# EAGLE library part 662022230822 (library Wire-to-Board (rev18a))
WR-MPC3 3.00mm Male Dual Row SMT Angled Header Through Hole Retention Clip, 22 Pins=>Code : Con_WTB_MPC3_2_PCB_SMT_662022230822 <http://katalog.we-online.de/media/thumbs2/eican/thb_Con_WTB_MPC3_2_PCB_SMT_6620xx230822_pf2.jpg> Details see: http://katalog.we-online.de/en/em/MPC3_3_00_SMT_MALE_DUAL_ROW_ANGLED_HEADER_W_THT_RETENTION_CLIP_6621XX230822 Created 2014-06-06, Karrer Zheng 2014 (C) Würth Elektronik
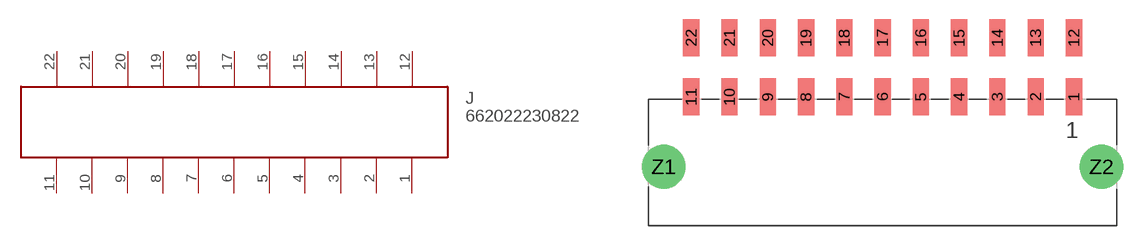
[diagram p397: symbol with the pads of 662022230822; footprint 662022230822]

Designator prefix J

## 662022230822  [662022230822]
1  1
2  2
3  3
4  4
5  5
6  6
7  7
8  8
9  9
10  10
11  11
12  12
13  13
14  14
15  15
16  16
17  17
18  18
19  19
20  20
21  21
22  22

## Footprint 662022230822 (pad centres in mm)
WR-MPC3 3.00mm Male Dual Row SMT Angled Header Through Hole Retention Clip, 22 Pins
smd 1.27 x 2.92: 1 15,5.48; 2 12,5.48; 3 9,5.48; 4 6,5.48; 5 3,5.48; 6 0,5.48; 7 -3,5.48; 8 -6,5.48; 9 -9,5.48; 10 -12,5.48; 11 -15,5.48; 12 15,10.1; 13 12,10.1; 14 9,10.1; 15 6,10.1; 16 3,10.1; 17 0,10.1; 18 -3,10.1; 19 -6,10.1; 20 -9,10.1; 21 -12,10.1; 22 -15,10.1
drill 2.41: Z1 -17.16,0; Z2 17.16,0